# Altium schematic symbol library FET P_CH SOT23_3.Schlib: 1 symbol
Pins are listed as number, name and electrical type; pins without a type are passive.

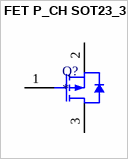
[diagram p0: symbol FET P_CH SOT23_3]

## FET P_CH SOT23_3
designator Q?
P-Channel MOSFET General Purpose P-CH SOT23-3
footprint SOT-23 (3)
pins: 1 GATE, 2 SOURCE, 3 DRAIN